# Altium schematic symbol library ICM-20948.Schlib: 1 symbol
Pins are listed as number, name and electrical type; pins without a type are passive.

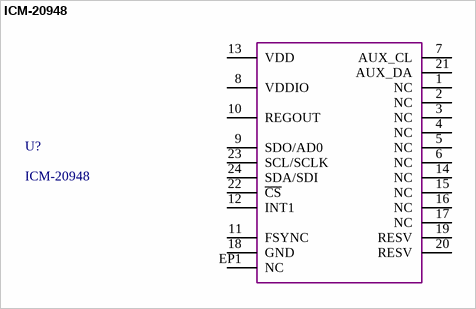
[diagram p0: symbol ICM-20948]

## ICM-20948
designator U?
pins: 1 NC, 2 NC, 3 NC, 4 NC, 5 NC, 6 NC, 7 AUX_CL, 8 VDDIO, 9 SDO/AD0, 10 REGOUT, 11 FSYNC, 12 INT1, 13 VDD, 14 NC (hiz), 15 NC, 16 NC, 17 NC, 18 GND, 19 RESV, 20 RESV, 21 AUX_DA, 22 ~{CS}, 23 SCL/SCLK, 24 SDA/SDI, EP1 NC